# Altium integrated library NE555.IntLib: 1 symbol
Pins are listed as number, name and electrical type; pins without a type are passive.

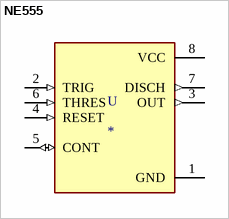
[diagram p0: symbol NE555]

## NE555
designator U
555 Type, Timer/Oscillator _Single_ IC 100kHz 8-SOIC; MP: NE555; MF: Texas Instruments; Package: SOIC-8 Conrad; Availability: Unavailable; Value: *; SnapEDA_Link: https://www.snapeda.com/parts/NE555/Texas%20Instruments/view-part/1756807/?ref=snap; Price: None
footprint DIP794W45P254L1060H508Q8
pins: 1 GND (power), 2 TRIG (in), 3 OUT (out), 4 RESET (in), 5 CONT (io), 6 THRES (in), 7 DISCH (out), 8 VCC (power)